# EAGLE library part DW01 (library radiva)
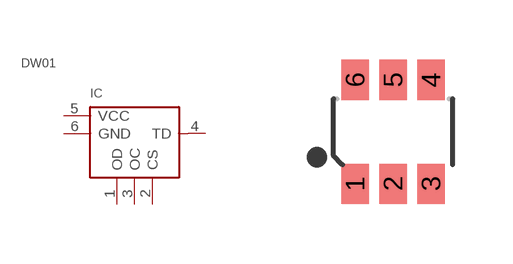
[diagram p6: symbol with the pads of SOT-23-6; footprint SOT-23-6]

Designator prefix IC

## DW01  [SOT-23-6]
1  OD
2  CS
3  OC
4  TD  in
5  VCC  pwr
6  GND  sup

## Footprint SOT-23-6 (pad centres in mm)
smd 0.69 x 1: 1 -0.95,-1.3; 2 0,-1.3; 3 0.95,-1.3; 4 0.95,1.3; 5 0,1.3; 6 -0.95,1.3